# EAGLE library part XS1-G04B-FB512 (library xmos)
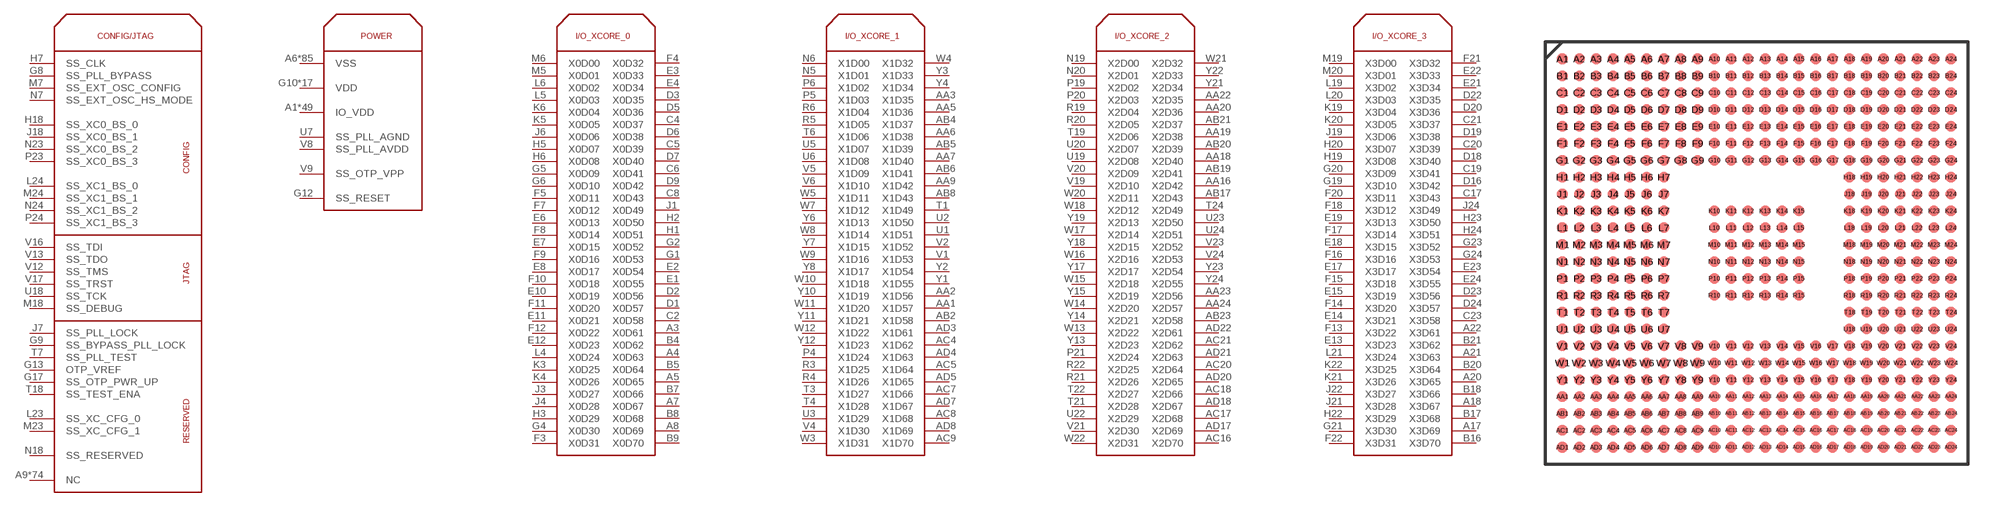
[diagram p6: symbol with the pads of FBGA512; footprint FBGA512]

Designator prefix -; gates G$1=XS1-G04B-FB512_CONFIG/JTAG G$2=XS1-G04B-FB512_POWER G$3=XS1-G04B-FB512_I/O_XCORE_0 G$4=XS1-G04B-FB512_I/O_XCORE_1 G$5=XS1-G04B-FB512_I/O_XCORE_2 G$6=XS1-G04B-FB512_I/O_XCORE_3

## XS1-G04B-FB512  [FBGA512]
A1  G$2:IO_VDD
A2  G$2:IO_VDD
A3  G$3:X0D61
A4  G$3:X0D63
A5  G$3:X0D65
A6  G$2:VSS
A7  G$3:X0D67
A8  G$3:X0D69
A9  G$1:NC
A10  G$2:IO_VDD
A11  G$1:NC
A12  G$1:NC
A13  G$1:NC
A14  G$1:NC
A15  G$2:VSS
A16  G$1:NC
A17  G$6:X3D69
A18  G$6:X3D67
A19  G$2:IO_VDD
A20  G$6:X3D65
A21  G$6:X3D63
A22  G$6:X3D61
A23  G$2:VSS
A24  G$2:VSS
AA1  G$4:X1D57
AA2  G$4:X1D56
AA3  G$4:X1D35
AA4  G$2:VSS
AA5  G$4:X1D36
AA6  G$4:X1D38
AA7  G$4:X1D40
AA8  G$2:IO_VDD
AA9  G$4:X1D42
AA10  G$1:NC
AA11  G$1:NC
AA12  G$1:NC
AA13  G$1:NC
AA14  G$1:NC
AA15  G$1:NC
AA16  G$5:X2D42
AA17  G$2:VSS
AA18  G$5:X2D40
AA19  G$5:X2D38
AA20  G$5:X2D36
AA21  G$2:IO_VDD
AA22  G$5:X2D35
AA23  G$5:X2D56
AA24  G$5:X2D57
AB1  G$1:NC
AB2  G$4:X1D58
AB3  G$2:VSS
AB4  G$4:X1D37
AB5  G$4:X1D39
AB6  G$4:X1D41
AB7  G$2:IO_VDD
AB8  G$4:X1D43
AB9  G$1:NC
AB10  G$1:NC
AB11  G$2:VSS
AB12  G$1:NC
AB13  G$1:NC
AB14  G$2:IO_VDD
AB15  G$1:NC
AB16  G$1:NC
AB17  G$5:X2D43
AB18  G$2:VSS
AB19  G$5:X2D41
AB20  G$5:X2D39
AB21  G$5:X2D37
AB22  G$2:IO_VDD
AB23  G$5:X2D58
AB24  G$1:NC
AC1  G$2:VSS
AC2  G$2:VSS
AC3  G$1:NC
AC4  G$4:X1D62
AC5  G$4:X1D64
AC6  G$2:IO_VDD
AC7  G$4:X1D66
AC8  G$4:X1D68
AC9  G$4:X1D70
AC10  G$2:VSS
AC11  G$1:NC
AC12  G$1:NC
AC13  G$1:NC
AC14  G$1:NC
AC15  G$2:IO_VDD
AC16  G$5:X2D70
AC17  G$5:X2D68
AC18  G$5:X2D66
AC19  G$2:VSS
AC20  G$5:X2D64
AC21  G$5:X2D62
AC22  G$1:NC
AC23  G$2:IO_VDD
AC24  G$2:IO_VDD
AD1  G$2:VSS
AD2  G$2:VSS
AD3  G$4:X1D61
AD4  G$4:X1D63
AD5  G$4:X1D65
AD6  G$2:IO_VDD
AD7  G$4:X1D67
AD8  G$4:X1D69
AD9  G$1:NC
AD10  G$2:VSS
AD11  G$1:NC
AD12  G$1:NC
AD13  G$1:NC
AD14  G$1:NC
AD15  G$2:IO_VDD
AD16  G$1:NC
AD17  G$5:X2D69
AD18  G$5:X2D67
AD19  G$2:VSS
AD20  G$5:X2D65
AD21  G$5:X2D63
AD22  G$5:X2D61
AD23  G$2:IO_VDD
AD24  G$2:IO_VDD
B1  G$2:IO_VDD
B2  G$2:IO_VDD
B3  G$1:NC
B4  G$3:X0D62
B5  G$3:X0D64
B6  G$2:VSS
B7  G$3:X0D66
B8  G$3:X0D68
B9  G$3:X0D70
B10  G$2:IO_VDD
B11  G$1:NC
B12  G$1:NC
B13  G$1:NC
B14  G$1:NC
B15  G$2:VSS
B16  G$6:X3D70
B17  G$6:X3D68
B18  G$6:X3D66
B19  G$2:IO_VDD
B20  G$6:X3D64
B21  G$6:X3D62
B22  G$1:NC
B23  G$2:VSS
B24  G$2:VSS
C1  G$1:NC
C2  G$3:X0D58
C3  G$2:IO_VDD
C4  G$3:X0D37
C5  G$3:X0D39
C6  G$3:X0D41
C7  G$2:VSS
C8  G$3:X0D43
C9  G$1:NC
C10  G$1:NC
C11  G$2:IO_VDD
C12  G$1:NC
C13  G$1:NC
C14  G$2:VSS
C15  G$1:NC
C16  G$1:NC
C17  G$6:X3D43
C18  G$2:IO_VDD
C19  G$6:X3D41
C20  G$6:X3D39
C21  G$6:X3D37
C22  G$2:VSS
C23  G$6:X3D58
C24  G$1:NC
D1  G$3:X0D57
D2  G$3:X0D56
D3  G$3:X0D35
D4  G$2:IO_VDD
D5  G$3:X0D36
D6  G$3:X0D38
D7  G$3:X0D40
D8  G$2:VSS
D9  G$3:X0D42
D10  G$1:NC
D11  G$1:NC
D12  G$1:NC
D13  G$1:NC
D14  G$1:NC
D15  G$1:NC
D16  G$6:X3D42
D17  G$2:IO_VDD
D18  G$6:X3D40
D19  G$6:X3D38
D20  G$6:X3D36
D21  G$2:VSS
D22  G$6:X3D35
D23  G$6:X3D56
D24  G$6:X3D57
E1  G$3:X0D55
E2  G$3:X0D54
E3  G$3:X0D33
E4  G$3:X0D34
E5  G$2:IO_VDD
E6  G$3:X0D13
E7  G$3:X0D15
E8  G$3:X0D17
E9  G$2:VSS
E10  G$3:X0D19
E11  G$3:X0D21
E12  G$3:X0D23
E13  G$6:X3D23
E14  G$6:X3D21
E15  G$6:X3D19
E16  G$2:IO_VDD
E17  G$6:X3D17
E18  G$6:X3D15
E19  G$6:X3D13
E20  G$2:VSS
E21  G$6:X3D34
E22  G$6:X3D33
E23  G$6:X3D54
E24  G$6:X3D55
F1  G$2:VSS
F2  G$2:VSS
F3  G$3:X0D31
F4  G$3:X0D32
F5  G$3:X0D11
F6  G$2:IO_VDD
F7  G$3:X0D12
F8  G$3:X0D14
F9  G$3:X0D16
F10  G$3:X0D18
F11  G$3:X0D20
F12  G$3:X0D22
F13  G$6:X3D22
F14  G$6:X3D20
F15  G$6:X3D18
F16  G$6:X3D16
F17  G$6:X3D14
F18  G$6:X3D12
F19  G$2:VSS
F20  G$6:X3D11
F21  G$6:X3D32
F22  G$6:X3D31
F23  G$2:IO_VDD
F24  G$2:IO_VDD
G1  G$3:X0D53
G2  G$3:X0D52
G3  G$2:VSS
G4  G$3:X0D30
G5  G$3:X0D09
G6  G$3:X0D10
G7  G$2:IO_VDD
G8  G$1:SS_PLL_BYPASS
G9  G$1:SS_BYPASS_PLL_LOCK
G10  G$2:VDD
G11  G$2:VDD
G12  G$2:SS_RESET
G13  G$1:OTP_VREF
G14  G$2:VDD
G15  G$2:VDD
G16  G$2:VDD
G17  G$1:SS_OTP_PWR_UP
G18  G$2:VSS
G19  G$6:X3D10
G20  G$6:X3D09
G21  G$6:X3D30
G22  G$2:IO_VDD
G23  G$6:X3D52
G24  G$6:X3D53
H1  G$3:X0D51
H2  G$3:X0D50
H3  G$3:X0D29
H4  G$2:VSS
H5  G$3:X0D07
H6  G$3:X0D08
H7  G$1:SS_CLK
H18  G$1:SS_XC0_BS_0
H19  G$6:X3D08
H20  G$6:X3D07
H21  G$2:IO_VDD
H22  G$6:X3D29
H23  G$6:X3D50
H24  G$6:X3D51
J1  G$3:X0D49
J2  G$1:NC
J3  G$3:X0D27
J4  G$3:X0D28
J5  G$2:VSS
J6  G$3:X0D06
J7  G$1:SS_PLL_LOCK
J18  G$1:SS_XC0_BS_1
J19  G$6:X3D06
J20  G$2:IO_VDD
J21  G$6:X3D28
J22  G$6:X3D27
J23  G$1:NC
J24  G$6:X3D49
K1  G$2:IO_VDD
K2  G$2:IO_VDD
K3  G$3:X0D25
K4  G$3:X0D26
K5  G$3:X0D05
K6  G$3:X0D04
K7  G$2:VDD
K10  G$2:VSS
K11  G$2:VSS
K12  G$2:VSS
K13  G$2:VSS
K14  G$2:VSS
K15  G$2:VSS
K18  G$2:VDD
K19  G$6:X3D04
K20  G$6:X3D05
K21  G$6:X3D26
K22  G$6:X3D25
K23  G$2:VSS
K24  G$2:VSS
L1  G$1:NC
L2  G$1:NC
L3  G$2:IO_VDD
L4  G$3:X0D24
L5  G$3:X0D03
L6  G$3:X0D02
L7  G$2:VDD
L10  G$2:VSS
L11  G$2:VSS
L12  G$2:VSS
L13  G$2:VSS
L14  G$2:VSS
L15  G$2:VSS
L18  G$2:VDD
L19  G$6:X3D02
L20  G$6:X3D03
L21  G$6:X3D24
L22  G$1:NC
L23  G$1:SS_XC_CFG_0
L24  G$1:SS_XC1_BS_0
M1  G$1:NC
M2  G$1:NC
M3  G$1:NC
M4  G$1:NC
M5  G$3:X0D01
M6  G$3:X0D00
M7  G$1:SS_EXT_OSC_CONFIG
M10  G$2:VSS
M11  G$2:VSS
M12  G$2:VSS
M13  G$2:VSS
M14  G$2:VSS
M15  G$2:VSS
M18  G$1:SS_DEBUG
M19  G$6:X3D00
M20  G$6:X3D01
M21  G$1:NC
M22  G$1:NC
M23  G$1:SS_XC_CFG_1
M24  G$1:SS_XC1_BS_1
N1  G$1:NC
N2  G$1:NC
N3  G$1:NC
N4  G$1:NC
N5  G$4:X1D01
N6  G$4:X1D00
N7  G$1:SS_EXT_OSC_HS_MODE
N10  G$2:VSS
N11  G$2:VSS
N12  G$2:VSS
N13  G$2:VSS
N14  G$2:VSS
N15  G$2:VSS
N18  G$1:SS_RESERVED
N19  G$5:X2D00
N20  G$5:X2D01
N21  G$1:NC
N22  G$1:NC
N23  G$1:SS_XC0_BS_2
N24  G$1:SS_XC1_BS_2
P1  G$1:NC
P2  G$1:NC
P3  G$2:VSS
P4  G$4:X1D24
P5  G$4:X1D03
P6  G$4:X1D02
P7  G$2:VDD
P10  G$2:VSS
P11  G$2:VSS
P12  G$2:VSS
P13  G$2:VSS
P14  G$2:VSS
P15  G$2:VSS
P18  G$2:VDD
P19  G$5:X2D02
P20  G$5:X2D03
P21  G$5:X2D24
P22  G$1:NC
P23  G$1:SS_XC0_BS_3
P24  G$1:SS_XC1_BS_3
R1  G$2:VSS
R2  G$2:VSS
R3  G$4:X1D25
R4  G$4:X1D26
R5  G$4:X1D05
R6  G$4:X1D04
R7  G$2:VDD
R10  G$2:VSS
R11  G$2:VSS
R12  G$2:VSS
R13  G$2:VSS
R14  G$2:VSS
R15  G$2:VSS
R18  G$2:VDD
R19  G$5:X2D04
R20  G$5:X2D05
R21  G$5:X2D26
R22  G$5:X2D25
R23  G$2:IO_VDD
R24  G$2:IO_VDD
T1  G$4:X1D49
T2  G$1:NC
T3  G$4:X1D27
T4  G$4:X1D28
T5  G$2:IO_VDD
T6  G$4:X1D06
T7  G$1:SS_PLL_TEST
T18  G$1:SS_TEST_ENA
T19  G$5:X2D06
T20  G$2:VSS
T21  G$5:X2D28
T22  G$5:X2D27
T23  G$1:NC
T24  G$5:X2D49
U1  G$4:X1D51
U2  G$4:X1D50
U3  G$4:X1D29
U4  G$2:IO_VDD
U5  G$4:X1D07
U6  G$4:X1D08
U7  G$2:SS_PLL_AGND
U18  G$1:SS_TCK
U19  G$5:X2D08
U20  G$5:X2D07
U21  G$2:VSS
U22  G$5:X2D29
U23  G$5:X2D50
U24  G$5:X2D51
V1  G$4:X1D53
V2  G$4:X1D52
V3  G$2:IO_VDD
V4  G$4:X1D30
V5  G$4:X1D09
V6  G$4:X1D10
V7  G$2:VSS
V8  G$2:SS_PLL_AVDD
V9  G$2:SS_OTP_VPP
V10  G$2:VDD
V11  G$2:VDD
V12  G$1:SS_TMS
V13  G$1:SS_TDO
V14  G$2:VDD
V15  G$2:VDD
V16  G$1:SS_TDI
V17  G$1:SS_TRST
V18  G$2:IO_VDD
V19  G$5:X2D10
V20  G$5:X2D09
V21  G$5:X2D30
V22  G$2:VSS
V23  G$5:X2D52
V24  G$5:X2D53
W1  G$2:IO_VDD
W2  G$2:IO_VDD
W3  G$4:X1D31
W4  G$4:X1D32
W5  G$4:X1D11
W6  G$2:VSS
W7  G$4:X1D12
W8  G$4:X1D14
W9  G$4:X1D16
W10  G$4:X1D18
W11  G$4:X1D20
W12  G$4:X1D22
W13  G$5:X2D22
W14  G$5:X2D20
W15  G$5:X2D18
W16  G$5:X2D16
W17  G$5:X2D14
W18  G$5:X2D12
W19  G$2:IO_VDD
W20  G$5:X2D11
W21  G$5:X2D32
W22  G$5:X2D31
W23  G$2:VSS
W24  G$2:VSS
Y1  G$4:X1D55
Y2  G$4:X1D54
Y3  G$4:X1D33
Y4  G$4:X1D34
Y5  G$2:VSS
Y6  G$4:X1D13
Y7  G$4:X1D15
Y8  G$4:X1D17
Y9  G$2:IO_VDD
Y10  G$4:X1D19
Y11  G$4:X1D21
Y12  G$4:X1D23
Y13  G$5:X2D23
Y14  G$5:X2D21
Y15  G$5:X2D19
Y16  G$2:VSS
Y17  G$5:X2D17
Y18  G$5:X2D15
Y19  G$5:X2D13
Y20  G$2:IO_VDD
Y21  G$5:X2D34
Y22  G$5:X2D33
Y23  G$5:X2D54
Y24  G$5:X2D55

## Footprint FBGA512 (pad centres in mm)
smd 0.5 x 0.5: A1 0,0; A2 0.8,0; A3 1.6,0; A4 2.4,0; A5 3.2,0; A6 4,0; A7 4.8,0; A8 5.6,0; A9 6.4,0; A10 7.2,0; A11 8,0; A12 8.8,0; A13 9.6,0; A14 10.4,0; A15 11.2,0; A16 12,0; A17 12.8,0; A18 13.6,0; A19 14.4,0; A20 15.2,0; A21 16,0; A22 16.8,0; A23 17.6,0; A24 18.4,0; AA1 0,-16; AA2 0.8,-16; AA3 1.6,-16; AA4 2.4,-16; AA5 3.2,-16; AA6 4,-16; AA7 4.8,-16; AA8 5.6,-16; AA9 6.4,-16; AA10 7.2,-16; AA11 8,-16; AA12 8.8,-16; AA13 9.6,-16; AA14 10.4,-16; AA15 11.2,-16; AA16 12,-16; AA17 12.8,-16; AA18 13.6,-16; AA19 14.4,-16; AA20 15.2,-16; AA21 16,-16; AA22 16.8,-16; AA23 17.6,-16; AA24 18.4,-16; AB1 0,-16.8; AB2 0.8,-16.8; AB3 1.6,-16.8; AB4 2.4,-16.8; AB5 3.2,-16.8; AB6 4,-16.8; AB7 4.8,-16.8; AB8 5.6,-16.8; AB9 6.4,-16.8; AB10 7.2,-16.8; AB11 8,-16.8; AB12 8.8,-16.8; AB13 9.6,-16.8; AB14 10.4,-16.8; AB15 11.2,-16.8; AB16 12,-16.8; AB17 12.8,-16.8; AB18 13.6,-16.8; AB19 14.4,-16.8; AB20 15.2,-16.8; AB21 16,-16.8; AB22 16.8,-16.8; AB23 17.6,-16.8; AB24 18.4,-16.8; AC1 0,-17.6; AC2 0.8,-17.6; AC3 1.6,-17.6; AC4 2.4,-17.6; AC5 3.2,-17.6; AC6 4,-17.6; AC7 4.8,-17.6; AC8 5.6,-17.6; AC9 6.4,-17.6; AC10 7.2,-17.6; AC11 8,-17.6; AC12 8.8,-17.6; AC13 9.6,-17.6; AC14 10.4,-17.6; AC15 11.2,-17.6; AC16 12,-17.6; AC17 12.8,-17.6; AC18 13.6,-17.6; AC19 14.4,-17.6; AC20 15.2,-17.6; AC21 16,-17.6; AC22 16.8,-17.6; AC23 17.6,-17.6; AC24 18.4,-17.6; AD1 0,-18.4; AD2 0.8,-18.4; AD3 1.6,-18.4; AD4 2.4,-18.4; AD5 3.2,-18.4; AD6 4,-18.4; AD7 4.8,-18.4; AD8 5.6,-18.4; AD9 6.4,-18.4; AD10 7.2,-18.4; AD11 8,-18.4; AD12 8.8,-18.4; AD13 9.6,-18.4; AD14 10.4,-18.4; AD15 11.2,-18.4; AD16 12,-18.4; AD17 12.8,-18.4; AD18 13.6,-18.4; AD19 14.4,-18.4; AD20 15.2,-18.4; AD21 16,-18.4; AD22 16.8,-18.4; AD23 17.6,-18.4; AD24 18.4,-18.4; B1 0,-0.8; B2 0.8,-0.8; B3 1.6,-0.8; B4 2.4,-0.8; B5 3.2,-0.8; B6 4,-0.8; B7 4.8,-0.8; B8 5.6,-0.8; B9 6.4,-0.8; B10 7.2,-0.8; B11 8,-0.8; B12 8.8,-0.8; B13 9.6,-0.8; B14 10.4,-0.8; B15 11.2,-0.8; B16 12,-0.8; B17 12.8,-0.8; B18 13.6,-0.8; B19 14.4,-0.8; B20 15.2,-0.8; B21 16,-0.8; B22 16.8,-0.8; B23 17.6,-0.8; B24 18.4,-0.8; C1 0,-1.6; C2 0.8,-1.6; C3 1.6,-1.6; C4 2.4,-1.6; C5 3.2,-1.6; C6 4,-1.6; C7 4.8,-1.6; C8 5.6,-1.6; C9 6.4,-1.6; C10 7.2,-1.6; C11 8,-1.6; C12 8.8,-1.6; C13 9.6,-1.6; C14 10.4,-1.6; C15 11.2,-1.6; C16 12,-1.6; C17 12.8,-1.6; C18 13.6,-1.6; C19 14.4,-1.6; C20 15.2,-1.6; C21 16,-1.6; C22 16.8,-1.6; C23 17.6,-1.6; C24 18.4,-1.6; D1 0,-2.4; D2 0.8,-2.4; D3 1.6,-2.4; D4 2.4,-2.4; D5 3.2,-2.4; D6 4,-2.4; D7 4.8,-2.4; D8 5.6,-2.4; D9 6.4,-2.4; D10 7.2,-2.4; D11 8,-2.4; D12 8.8,-2.4; D13 9.6,-2.4; D14 10.4,-2.4; D15 11.2,-2.4; D16 12,-2.4; D17 12.8,-2.4; D18 13.6,-2.4; D19 14.4,-2.4; D20 15.2,-2.4; D21 16,-2.4; D22 16.8,-2.4; D23 17.6,-2.4; D24 18.4,-2.4; E1 0,-3.2; E2 0.8,-3.2; E3 1.6,-3.2; E4 2.4,-3.2; E5 3.2,-3.2; E6 4,-3.2; E7 4.8,-3.2; E8 5.6,-3.2; E9 6.4,-3.2; E10 7.2,-3.2; E11 8,-3.2; E12 8.8,-3.2; E13 9.6,-3.2; E14 10.4,-3.2; E15 11.2,-3.2; E16 12,-3.2; E17 12.8,-3.2; E18 13.6,-3.2; E19 14.4,-3.2; E20 15.2,-3.2; E21 16,-3.2; E22 16.8,-3.2; E23 17.6,-3.2; E24 18.4,-3.2; F1 0,-4; F2 0.8,-4; F3 1.6,-4; F4 2.4,-4; F5 3.2,-4; F6 4,-4; F7 4.8,-4; F8 5.6,-4; F9 6.4,-4; F10 7.2,-4; F11 8,-4; F12 8.8,-4; F13 9.6,-4; F14 10.4,-4; F15 11.2,-4; F16 12,-4; F17 12.8,-4; F18 13.6,-4; F19 14.4,-4; F20 15.2,-4; F21 16,-4; F22 16.8,-4; F23 17.6,-4; F24 18.4,-4; G1 0,-4.8; G2 0.8,-4.8; G3 1.6,-4.8; G4 2.4,-4.8; G5 3.2,-4.8; G6 4,-4.8; G7 4.8,-4.8; G8 5.6,-4.8; G9 6.4,-4.8; G10 7.2,-4.8; G11 8,-4.8; G12 8.8,-4.8; G13 9.6,-4.8; G14 10.4,-4.8; G15 11.2,-4.8; G16 12,-4.8; G17 12.8,-4.8; G18 13.6,-4.8; G19 14.4,-4.8; G20 15.2,-4.8; G21 16,-4.8; G22 16.8,-4.8; G23 17.6,-4.8; G24 18.4,-4.8; H1 0,-5.6; H2 0.8,-5.6; H3 1.6,-5.6; H4 2.4,-5.6; H5 3.2,-5.6; H6 4,-5.6; H7 4.8,-5.6; H18 13.6,-5.6; H19 14.4,-5.6; H20 15.2,-5.6; H21 16,-5.6; H22 16.8,-5.6; H23 17.6,-5.6; H24 18.4,-5.6; J1 0,-6.4; J2 0.8,-6.4; J3 1.6,-6.4; J4 2.4,-6.4; J5 3.2,-6.4; J6 4,-6.4; J7 4.8,-6.4; J18 13.6,-6.4; J19 14.4,-6.4; J20 15.2,-6.4; J21 16,-6.4; J22 16.8,-6.4; J23 17.6,-6.4; J24 18.4,-6.4; K1 0,-7.2; K2 0.8,-7.2; K3 1.6,-7.2; K4 2.4,-7.2; K5 3.2,-7.2; K6 4,-7.2; K7 4.8,-7.2; K10 7.2,-7.2; K11 8,-7.2; K12 8.8,-7.2; K13 9.6,-7.2; K14 10.4,-7.2; K15 11.2,-7.2; K18 13.6,-7.2; K19 14.4,-7.2; K20 15.2,-7.2; K21 16,-7.2; K22 16.8,-7.2; K23 17.6,-7.2; K24 18.4,-7.2; L1 0,-8; L2 0.8,-8; L3 1.6,-8; L4 2.4,-8; L5 3.2,-8; L6 4,-8; L7 4.8,-8; L10 7.2,-8; L11 8,-8; L12 8.8,-8; L13 9.6,-8; L14 10.4,-8; L15 11.2,-8; L18 13.6,-8; L19 14.4,-8; L20 15.2,-8; L21 16,-8; L22 16.8,-8; L23 17.6,-8; L24 18.4,-8; M1 0,-8.8; M2 0.8,-8.8; M3 1.6,-8.8; M4 2.4,-8.8; M5 3.2,-8.8; M6 4,-8.8; M7 4.8,-8.8; M10 7.2,-8.8; M11 8,-8.8; M12 8.8,-8.8; M13 9.6,-8.8; M14 10.4,-8.8; M15 11.2,-8.8; M18 13.6,-8.8; M19 14.4,-8.8; M20 15.2,-8.8; M21 16,-8.8; M22 16.8,-8.8; M23 17.6,-8.8; M24 18.4,-8.8; N1 0,-9.6; N2 0.8,-9.6; N3 1.6,-9.6; N4 2.4,-9.6; N5 3.2,-9.6; N6 4,-9.6; N7 4.8,-9.6; N10 7.2,-9.6; N11 8,-9.6; N12 8.8,-9.6; N13 9.6,-9.6; N14 10.4,-9.6; N15 11.2,-9.6; N18 13.6,-9.6; N19 14.4,-9.6; N20 15.2,-9.6; N21 16,-9.6; N22 16.8,-9.6; N23 17.6,-9.6; N24 18.4,-9.6; P1 0,-10.4; P2 0.8,-10.4; P3 1.6,-10.4; P4 2.4,-10.4; P5 3.2,-10.4; P6 4,-10.4; P7 4.8,-10.4; P10 7.2,-10.4; P11 8,-10.4; P12 8.8,-10.4; P13 9.6,-10.4; P14 10.4,-10.4; P15 11.2,-10.4; P18 13.6,-10.4; P19 14.4,-10.4; P20 15.2,-10.4; P21 16,-10.4; P22 16.8,-10.4; P23 17.6,-10.4; P24 18.4,-10.4; R1 0,-11.2; R2 0.8,-11.2; R3 1.6,-11.2; R4 2.4,-11.2; R5 3.2,-11.2; R6 4,-11.2; R7 4.8,-11.2; R10 7.2,-11.2; R11 8,-11.2; R12 8.8,-11.2; R13 9.6,-11.2; R14 10.4,-11.2; R15 11.2,-11.2; R18 13.6,-11.2; R19 14.4,-11.2; R20 15.2,-11.2; R21 16,-11.2; R22 16.8,-11.2; R23 17.6,-11.2; R24 18.4,-11.2; T1 0,-12; T2 0.8,-12; T3 1.6,-12; T4 2.4,-12; T5 3.2,-12; T6 4,-12; T7 4.8,-12; T18 13.6,-12; T19 14.4,-12; T20 15.2,-12; T21 16,-12; T22 16.8,-12; T23 17.6,-12; T24 18.4,-12; U1 0,-12.8; U2 0.8,-12.8; U3 1.6,-12.8; U4 2.4,-12.8; U5 3.2,-12.8; U6 4,-12.8; U7 4.8,-12.8; U18 13.6,-12.8; U19 14.4,-12.8; U20 15.2,-12.8; U21 16,-12.8; U22 16.8,-12.8; U23 17.6,-12.8; U24 18.4,-12.8; V1 0,-13.6; V2 0.8,-13.6; V3 1.6,-13.6; V4 2.4,-13.6; V5 3.2,-13.6; V6 4,-13.6; V7 4.8,-13.6; V8 5.6,-13.6; V9 6.4,-13.6; V10 7.2,-13.6; V11 8,-13.6; V12 8.8,-13.6; V13 9.6,-13.6; V14 10.4,-13.6; V15 11.2,-13.6; V16 12,-13.6; V17 12.8,-13.6; V18 13.6,-13.6; V19 14.4,-13.6; V20 15.2,-13.6; V21 16,-13.6; V22 16.8,-13.6; V23 17.6,-13.6; V24 18.4,-13.6; W1 0,-14.4; W2 0.8,-14.4; W3 1.6,-14.4; W4 2.4,-14.4; W5 3.2,-14.4; W6 4,-14.4; W7 4.8,-14.4; W8 5.6,-14.4; W9 6.4,-14.4; W10 7.2,-14.4; W11 8,-14.4; W12 8.8,-14.4; W13 9.6,-14.4; W14 10.4,-14.4; W15 11.2,-14.4; W16 12,-14.4; W17 12.8,-14.4; W18 13.6,-14.4; W19 14.4,-14.4; W20 15.2,-14.4; W21 16,-14.4; W22 16.8,-14.4; W23 17.6,-14.4; W24 18.4,-14.4; Y1 0,-15.2; Y2 0.8,-15.2; Y3 1.6,-15.2; Y4 2.4,-15.2; Y5 3.2,-15.2; Y6 4,-15.2; Y7 4.8,-15.2; Y8 5.6,-15.2; Y9 6.4,-15.2; Y10 7.2,-15.2; Y11 8,-15.2; Y12 8.8,-15.2; Y13 9.6,-15.2; Y14 10.4,-15.2; Y15 11.2,-15.2; Y16 12,-15.2; Y17 12.8,-15.2; Y18 13.6,-15.2; Y19 14.4,-15.2; Y20 15.2,-15.2; Y21 16,-15.2; Y22 16.8,-15.2; Y23 17.6,-15.2; Y24 18.4,-15.2